# EAGLE library part ATSAM4LC8B (library CougsInSpace)
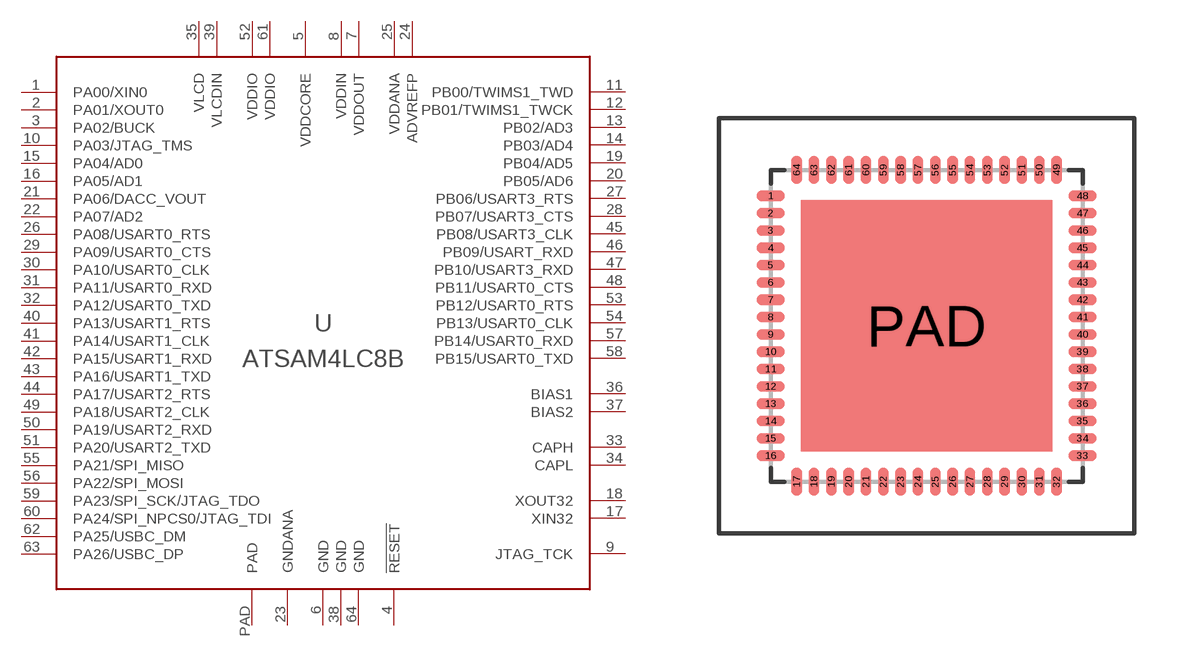
[diagram p12: symbol with the pads of QFN64-9X9; footprint QFN64-9X9]

Designator prefix U

## ATSAM4LC8B  [QFN64-9X9]
1  PA00/XIN0
2  PA01/XOUT0
3  PA02/BUCK
4  !RESET  in
5  VDDCORE  pwr
6  GND  pwr
7  VDDOUT  out
8  VDDIN  in
9  JTAG_TCK
10  PA03/JTAG_TMS
11  PB00/TWIMS1_TWD
12  PB01/TWIMS1_TWCK
13  PB02/AD3
14  PB03/AD4
15  PA04/AD0
16  PA05/AD1
17  XIN32  in
18  XOUT32  out
19  PB04/AD5
20  PB05/AD6
21  PA06/DACC_VOUT
22  PA07/AD2
23  GNDANA  pwr
24  ADVREFP  pwr
25  VDDANA  pwr
26  PA08/USART0_RTS
27  PB06/USART3_RTS
28  PB07/USART3_CTS
29  PA09/USART0_CTS
30  PA10/USART0_CLK
31  PA11/USART0_RXD
32  PA12/USART0_TXD
33  CAPH
34  CAPL
35  VLCD  pwr
36  BIAS1
37  BIAS2
38  GND  pwr
39  VLCDIN  in
40  PA13/USART1_RTS
41  PA14/USART1_CLK
42  PA15/USART1_RXD
43  PA16/USART1_TXD
44  PA17/USART2_RTS
45  PB08/USART3_CLK
46  PB09/USART_RXD
47  PB10/USART3_RXD
48  PB11/USART0_CTS
49  PA18/USART2_CLK
50  PA19/USART2_RXD
51  PA20/USART2_TXD
52  VDDIO  pwr
53  PB12/USART0_RTS
54  PB13/USART0_CLK
55  PA21/SPI_MISO
56  PA22/SPI_MOSI
57  PB14/USART0_RXD
58  PB15/USART0_TXD
59  PA23/SPI_SCK/JTAG_TDO
60  PA24/SPI_NPCS0/JTAG_TDI
61  VDDIO  pwr
62  PA25/USBC_DM
63  PA26/USBC_DP
64  GND  pwr
PAD  PAD  pwr

## Footprint QFN64-9X9 (pad centres in mm)
smd 0.8 x 0.3: 1 -4.5,3.75; 2 -4.5,3.25; 3 -4.5,2.75; 4 -4.5,2.25; 5 -4.5,1.75; 6 -4.5,1.25; 7 -4.5,0.75; 8 -4.5,0.25; 9 -4.5,-0.25; 10 -4.5,-0.75; 11 -4.5,-1.25; 12 -4.5,-1.75; 13 -4.5,-2.25; 14 -4.5,-2.75; 15 -4.5,-3.25; 16 -4.5,-3.75; 33 4.5,-3.75; 34 4.5,-3.25; 35 4.5,-2.75; 36 4.5,-2.25; 37 4.5,-1.75; 38 4.5,-1.25; 39 4.5,-0.75; 40 4.5,-0.25; 41 4.5,0.25; 42 4.5,0.75; 43 4.5,1.25; 44 4.5,1.75; 45 4.5,2.25; 46 4.5,2.75; 47 4.5,3.25; 48 4.5,3.75
smd 0.3 x 0.8: 17 -3.75,-4.5; 18 -3.25,-4.5; 19 -2.75,-4.5; 20 -2.25,-4.5; 21 -1.75,-4.5; 22 -1.25,-4.5; 23 -0.75,-4.5; 24 -0.25,-4.5; 25 0.25,-4.5; 26 0.75,-4.5; 27 1.25,-4.5; 28 1.75,-4.5; 29 2.25,-4.5; 30 2.75,-4.5; 31 3.25,-4.5; 32 3.75,-4.5; 49 3.75,4.5; 50 3.25,4.5; 51 2.75,4.5; 52 2.25,4.5; 53 1.75,4.5; 54 1.25,4.5; 55 0.75,4.5; 56 0.25,4.5; 57 -0.25,4.5; 58 -0.75,4.5; 59 -1.25,4.5; 60 -1.75,4.5; 61 -2.25,4.5; 62 -2.75,4.5; 63 -3.25,4.5; 64 -3.75,4.5
smd 7.25 x 7.25: PAD 0,0